# Altium schematic symbol library FTS-103-01-F-S.SchLib: 2 symbols
Pins are listed as number, name and electrical type; pins without a type are passive.

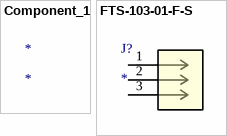
[diagram p0: symbols Component_1 to FTS-103-01-F-S]

## Component_1
designator *

## FTS-103-01-F-S
designator J?
No Description Available; Mfr_Name: Samtec Inc; RefDes: RefDes; Type: Type
footprint CONN_FTS-103-01-x-S_SAI
pins: 1, 2, 3